# Altium schematic symbol library Connectors.SchLib: 27 symbols
Pins are listed as number, name and electrical type; pins without a type are passive.

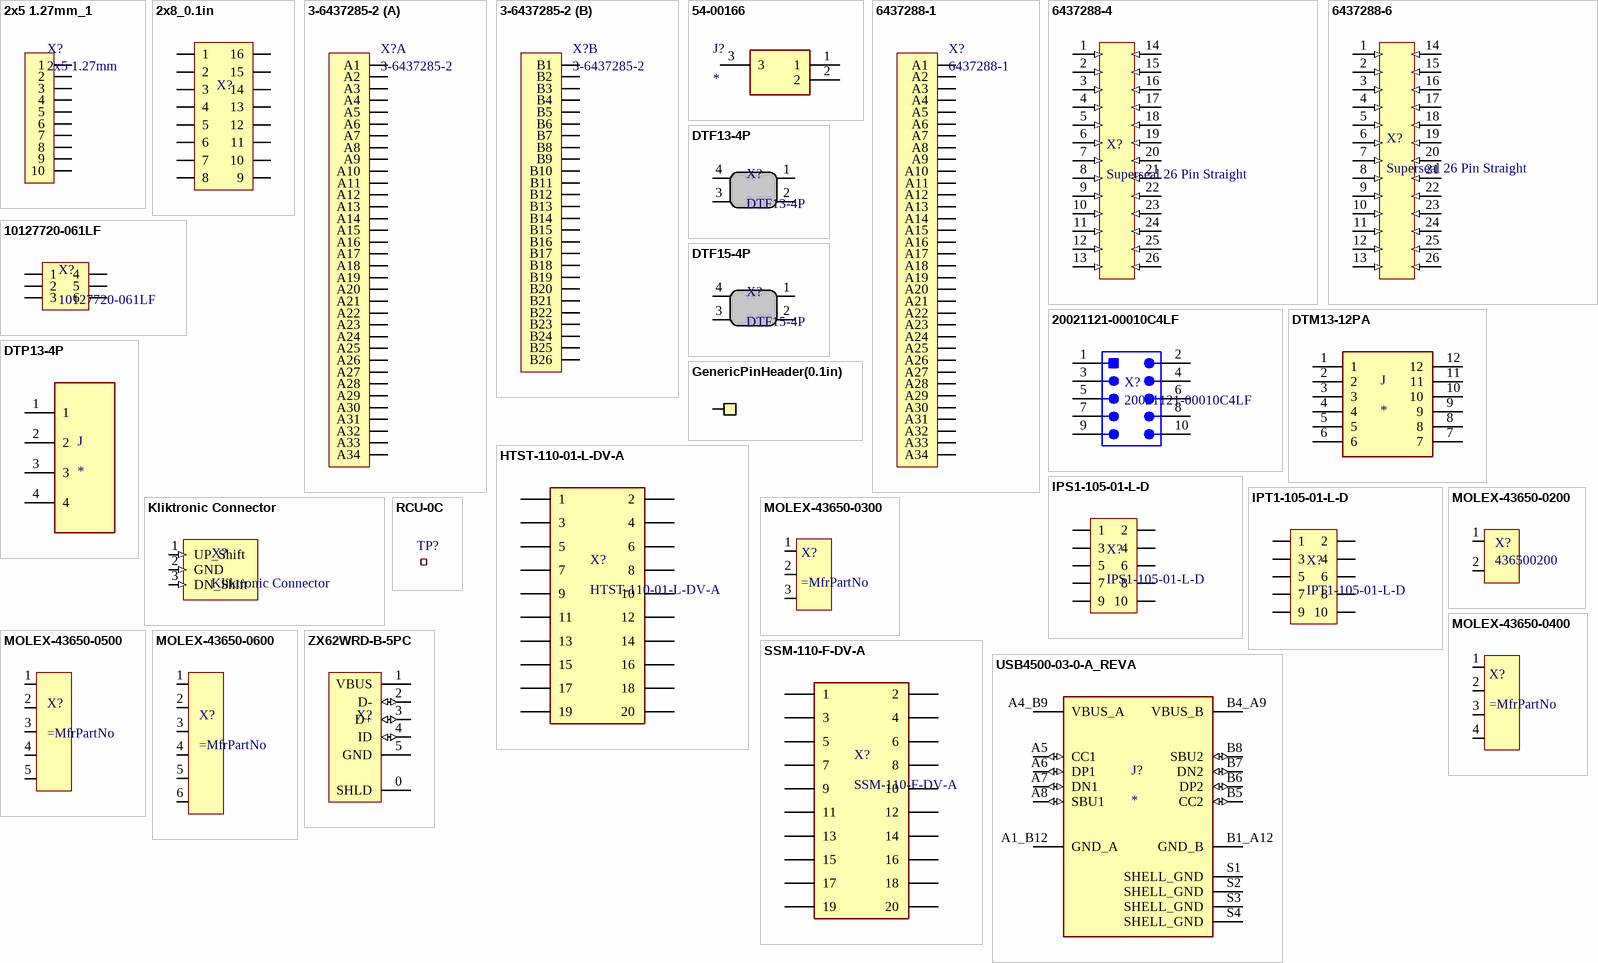
[diagram p0: symbols 2x5 1.27mm_1 to ZX62WRD-B-5PC]

## 2x5 1.27mm_1
designator X?, comment 2x5 1.27mm
Circuits: 10; Name: 2x5 1.27mm; ComponentLink1Description: Digikey; ComponentLink1URL: https://www.digikey.com/product-detail/en/samtec-inc/FTSH-105-01-F-D-K/SAM8909-ND/1850757
footprint 2x5 1.27mm th
pins: 1, 2, 3, 4, 5, 6, 7, 8, 9, 10

## 2x8_0.1in
designator X?
Generic 2x8 0.1in pitch pin header
footprint 2x8PinHeader_0.1in (Generic 2x8 (16pin) 0.1mm pitch pin header)
pins: 1, 2, 3, 4, 5, 6, 7, 8, 9, 10, 11, 12, 13, 14, 15, 16

## 3-6437285-2
designator X?
Superseal 60P; Circuits: 60; Name: 3-6437285-2; ComponentLink1Description: TE; ComponentLink1URL: https://www.te.com/usa-en/product-3-6437285-2.html
part A pins: A1, A2, A3, A4, A5, A6, A7, A8, A9, A10, A11, A12, A13, A14, A15, A16, A17, A18, A19, A20, A21, A22, A23, A24, A25, A26, A27, A28, A29, A30, A31, A32, A33, A34
part B pins: B1, B2, B3, B4, B5, B6, B7, B8, B9, B10, B11, B12, B13, B14, B15, B16, B17, B18, B19, B20, B21, B22, B23, B24, B25, B26

## 54-00166
designator J?
Connector; Manufacturer_Name: Tensility International Corp; Manufacturer_Part_Number: 54-00166; Datasheet Link: http://www.tensility.com/pdffiles/54-00166.pdf; Height: 11.2mm
footprint 5400166
pins: 1, 2, 3

## 6437288-1
designator X?
Superseal 34P; Circuits: 34; Name: 6437288-1; ComponentLink1Description: Digikey; ComponentLink1URL: https://www.digikey.com/products/en?mpart=6437288-1&&csp=WT.z_cid%3Dsp_8004_20120425_buynow%26TE_cid%3D8004-1541898693362
footprint 6437288-1
pins: A1, A2, A3, A4, A5, A6, A7, A8, A9, A10, A11, A12, A13, A14, A15, A16, A17, A18, A19, A20, A21, A22, A23, A24, A25, A26, A27, A28, A29, A30, A31, A32, A33, A34

## 6437288-4
designator X?, comment Superseal 26 Pin Straight
Connector Header Through Hole, Right Angle 26 position 0.118" (3.00mm); ComponentLink1Description: Drawing; ComponentLink1URL: https://www.te.com/commerce/DocumentDelivery/DDEController?Action=srchrtrv&DocNm=5-1447223-0&DocType=Customer+Drawing&DocLang=Japanese
footprint 6437288-4
pins: 1 (in), 2 (in), 3 (in), 4 (in), 5 (in), 6 (in), 7 (in), 8 (in), 9 (in), 10 (in), 11 (in), 12 (in), 13 (in), 14 (in), 15 (in), 16 (in), 17 (in), 18 (in), 19 (in), 20 (in), 21 (in), 22 (in), 23 (in), 24 (in), 25 (in), 26 (in)

## 6437288-6
designator X?, comment Superseal 26 Pin Straight
Connector Header Through Hole 26 position 0.118" (3.00mm)
footprint SUPERSEAL-26Pin-STR
pins: 1 (in), 2 (in), 3 (in), 4 (in), 5 (in), 6 (in), 7 (in), 8 (in), 9 (in), 10 (in), 11 (in), 12 (in), 13 (in), 14 (in), 15 (in), 16 (in), 17 (in), 18 (in), 19 (in), 20 (in), 21 (in), 22 (in), 23 (in), 24 (in), 25 (in), 26 (in)

## 10127720-061LF
designator X?
Connector Header Through Hole, Right Angle 6 position 0.118" (3.00mm); ComponentLink1Description: Digikey; ComponentLink1URL: https://www.digikey.com/en/products/detail/amphenol-icc-fci/10127720-061LF/4996193
footprint 10127720-061LF (CONN HEADER R/A 6POS 3MM)
pins: 1, 2, 3, 4, 5, 6

## 20021121-00010C4LF
designator X?
Header, 10-Leads, Body 3.43x6.35mm, Pitch 1.27mm; Circuits: 10; Name: 20021121-00010C4LF; ComponentLink1Description: Digikey; ComponentLink1URL: https://www.digikey.com/product-detail/en/amphenol-icc-fci/20021121-00010C4LF/609-3695-1-ND/2209147
footprint HDR2X5_SMT (Header, 10-Leads, Body 3.43x6.35mm, Pitch 1.27mm)
pins: 1, 2, 3, 4, 5, 6, 7, 8, 9, 10

## DTF13-4P
designator X?
Connector Header Through Hole, Right Angle 4 position 0.175" (4.44mm); ComponentLink1Description: Datasheet; ComponentLink1URL: https://www.te.com/usa-en/product-DTF13-4P.html; ComponentLink2Description: Digikey; ComponentLink2URL: https://www.digikey.com/en/products/detail/te-connectivity-deutsch-connectors/DTF13-4P/7220163
footprint DTF13-4P
pins: 1, 2, 3, 4

## DTF15-4P
designator X?
Deutsch DT15-4P DT Series 4 Straight Molded Pins Receptacle
footprint DT15-4P
pins: 1, 2, 3, 4

## DTM13-12PA
designator J
12 way DTM13 A key Receptacle with PCB mount and 90 degree molded pins. Sealable, with centerline pitch .165 inch/4 millimeters. Gray.; MF: TE Connectivity; MP: DTM13-12PA; Price: None; Package: None; SnapEDA_Link: https://www.snapeda.com/parts/DTM13-12PA/TE%20Connectivity%20Deutsch%20Connectors/view-part/570989/?ref=snap; Value: *; Availability: Unavailable
footprint TE_DTM13-12PA
pins: 1, 2, 3, 4, 5, 6, 7, 8, 9, 10, 11, 12

## DTP13-4P
designator J
DTP Connector 4Pin 90 Deg; MP: DTP13-4P; MF: TE Connectivity; Price: None; Package: None; Value: *; Availability: Unavailable; SnapEDA_Link: https://www.snapeda.com/parts/DTP13-4P/TE%20Connectivity/view-part/2479277/?ref=snap
footprint TE_DTP13-4P
pins: 1, 2, 3, 4

## GenericPinHeader(0.1in)
designator X?  (value not drawn)
Generic .1in(2.54mm) pitch pin header
footprint GenericPinHeader(.1in) (Generic .1in (2.54mm) pin header)
pins: 1 Pin

## HTST-110-01-L-DV-A
designator X?
Connector Header Surface Mount 20 position 0.100" (2.54mm); MP: SSM-110-F-DV-A; MF: Samtec; Package: None; Price: None; Availability: Unavailable; Value: *; ComponentLink1Description: Samtec Site; ComponentLink1URL: https://www.samtec.com/products/htst-110-01-l-dv-a; ComponentLink2Description: Digikey; ComponentLink2URL: https://www.digikey.com/en/products/detail/samtec-inc/HTST-110-01-L-DV-A/2664196
footprint HTST-110-01-L-DV-A-P-TR
pins: 01 1, 02 2, 03 3, 04 4, 05 5, 06 6, 07 7, 08 8, 09 9, 10, 11, 12, 13, 14, 15, 16, 17, 18, 19, 20

## IPS1-105-01-L-D
designator X?
10 Position Receptacle Connector 0.100" (2.54mm) Through Hole Gold; ComponentLink1Description: Datasheet; ComponentLink1URL: http://suddendocs.samtec.com/catalog_english/ips1.pdf
footprint IPS1-105-01-L-D
pins: 1, 2, 3, 4, 5, 6, 7, 8, 9, 10

## IPT1-105-01-L-D
designator X?
Connector Header Through Hole 10 position 0.100" (2.54mm); ComponentLink1Description: Datasheet; ComponentLink1URL: http://suddendocs.samtec.com/catalog_english/ips1.pdf
footprint IPT1-105-01-L-D
pins: 1, 2, 3, 4, 5, 6, 7, 8, 9, 10

## Kliktronic Connector
designator X?
footprint KLIKTRONIC_CONNECTOR
pins: 1 UP_Shift (in), 2 GND (in), 3 DN_Shift (in)

## MOLEX-43650-0200
designator X?, comment 436500200
2 Pin Molex Connector; MfrPartNo: 436500200; ComponentLink1Description: Digikey; ComponentLink1URL: https://www.digikey.com/en/products/detail/molex/0436500200/268989
footprint 43650-0200 (MOLEX-43650-0200, 2PIN)
pins: 1, 2

## MOLEX-43650-0300
designator X?
3 Pin Molex Connector
footprint Molex Micro-fit 3pin
pins: 1, 2, 3

## MOLEX-43650-0400
designator X?
4 Pin Molex Connector
footprint Molex Micro-fit 4pin
pins: 1, 2, 3, 4

## MOLEX-43650-0500
designator X?
5 Pin Molex Connector
footprint Molex Micro-fit 5pin
pins: 1, 2, 3, 4, 5

## MOLEX-43650-0600
designator X?
6 Pin Molex Connector
footprint Molex Micro-fit 6pin
pins: 1, 2, 3, 4, 5, 6

## RCU-0C
designator TP?
BNC Test Point; ComponentLink1Description: Digikey; ComponentLink1URL: https://www.digikey.com/product-detail/en/te-connectivity-amp-connectors/RCU-0C/A106145CT-ND/3477802
footprint RCU-0C
pins: 1

## SSM-110-F-DV-A
designator X?
20 Position Receptacle, Pass Through Connector 0.100" (2.54mm) Surface Mount Gold; MF: Samtec; Package: None; MP: SSM-110-F-DV-A; Price: None; Availability: Unavailable; Value: *; ComponentLink1Description: Samtec Site; ComponentLink1URL: https://www.samtec.com/products/ssm-110-f-dv-a
footprint SSM-110-F-DV-A
pins: 01 1, 02 2, 03 3, 04 4, 05 5, 06 6, 07 7, 08 8, 09 9, 10, 11, 12, 13, 14, 15, 16, 17, 18, 19, 20

## USB4500-03-0-A_REVA
designator J?
Type C USB 2.0 Connector; MP: USB4500-03-0-A; MF: Global Connector Technology; SnapEDA_Link: https://www.snapeda.com/parts/USB4500-03-0-A/Global%20Connector%20Technology/view-part/6577171/?ref=snap; Availability: No availability data; Check_prices: https://www.snapeda.com/parts/USB4500-03-0-A/Global%20Connector%20Technology/view-part/6577171/?ref=eda; Package: None; Price: None; Value: *
footprint GCT_USB4500-03-0-A_REVA
pins: A1_B12 GND_A (power), A4_B9 VBUS_A (power), A5 CC1 (io), A6 DP1 (io), A7 DN1 (io), A8 SBU1 (io), B1_A12 GND_B (power), B4_A9 VBUS_B (power), B5 CC2 (io), B6 DP2 (io), B7 DN2 (io), B8 SBU2 (io), S1 SHELL_GND (power), S2 SHELL_GND (power), S3 SHELL_GND (power), S4 SHELL_GND (power)

## ZX62WRD-B-5PC
designator X?  (value not drawn)
USB - micro B USB 2.0 Receptacle Connector 5 Position Surface Mount, Right Angle; Through Hole; ComponentLink1Description: Digikey; ComponentLink1URL: https://www.digikey.com/product-detail/en/hirose-electric-co-ltd/ZX62WRD-B-5PC/H12192CT-ND/3761043
footprint ZX62WRD-B-5PC (USB - micro B USB 2.0 Receptacle Connector 5 Position Surface Mount, Right Angle; Through Hole)
pins: 0 SHLD, 1 VBUS (power), 2 D- (io), 3 D+ (io), 4 ID (io), 5 GND (power)